# EAGLE library part 692121130100 (library Wuerth_Elektronik_eiCan_Communication_Connectors_STENCIL)
WR-COM USB 3.0 REVERSE HORIZONTAL TYPE A WITH OFFSET 0.14mm
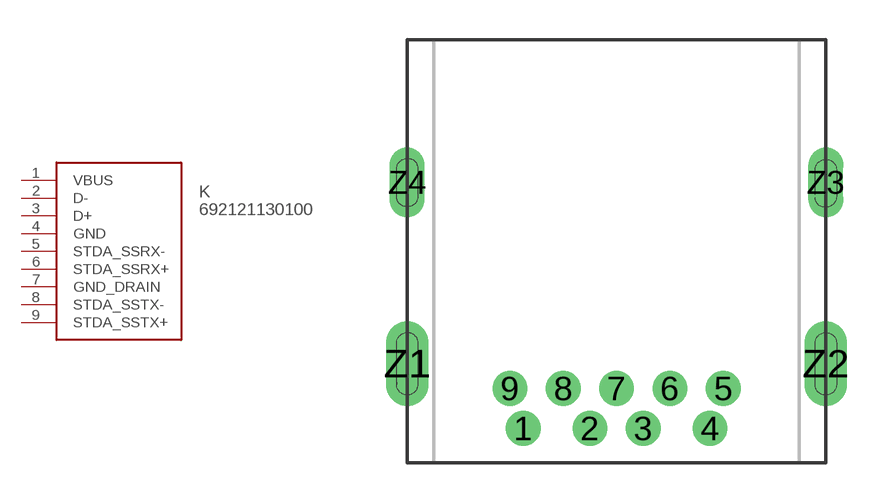
[diagram p19: symbol with the pads of 692121130100; footprint 692121130100]

Designator prefix K

## 692121130100  [692121130100]
1  VBUS
2  D-
3  D+
4  GND
5  STDA_SSRX-
6  STDA_SSRX+
7  GND_DRAIN
8  STDA_SSTX-
9  STDA_SSTX+

## Footprint 692121130100 (pad centres in mm)
WR-COM USB 3.0 REVERSE HORIZONTAL TYPE A WITH OFFSET 0.14mm
drill 0.7 pad 1.3: 1 -3.5,0; 2 -1,0; 3 1,0; 4 3.5,0; 5 4,1.5; 6 2,1.5; 7 0,1.5; 8 -2,1.5; 9 -4,1.5
drill 0.8 pad 1.6 long: Z1 -7.85,2.43; Z2 7.85,2.43
drill 0.8 long: Z3 7.85,9.23; Z4 -7.85,9.23